# Altium footprint library footprintLIB.PcbLib: 52 footprints (part 3 of 4)
Each footprint in its own frame and in the unit in brackets; x right, y up, seen from the top. Pads: shape width x height; smd on the part's side, far side on the other; paste and mask are expansions set on the pad; w line width, h text height; cw(c..) or ccw(c..) is an arc to the next point about the centre after c.
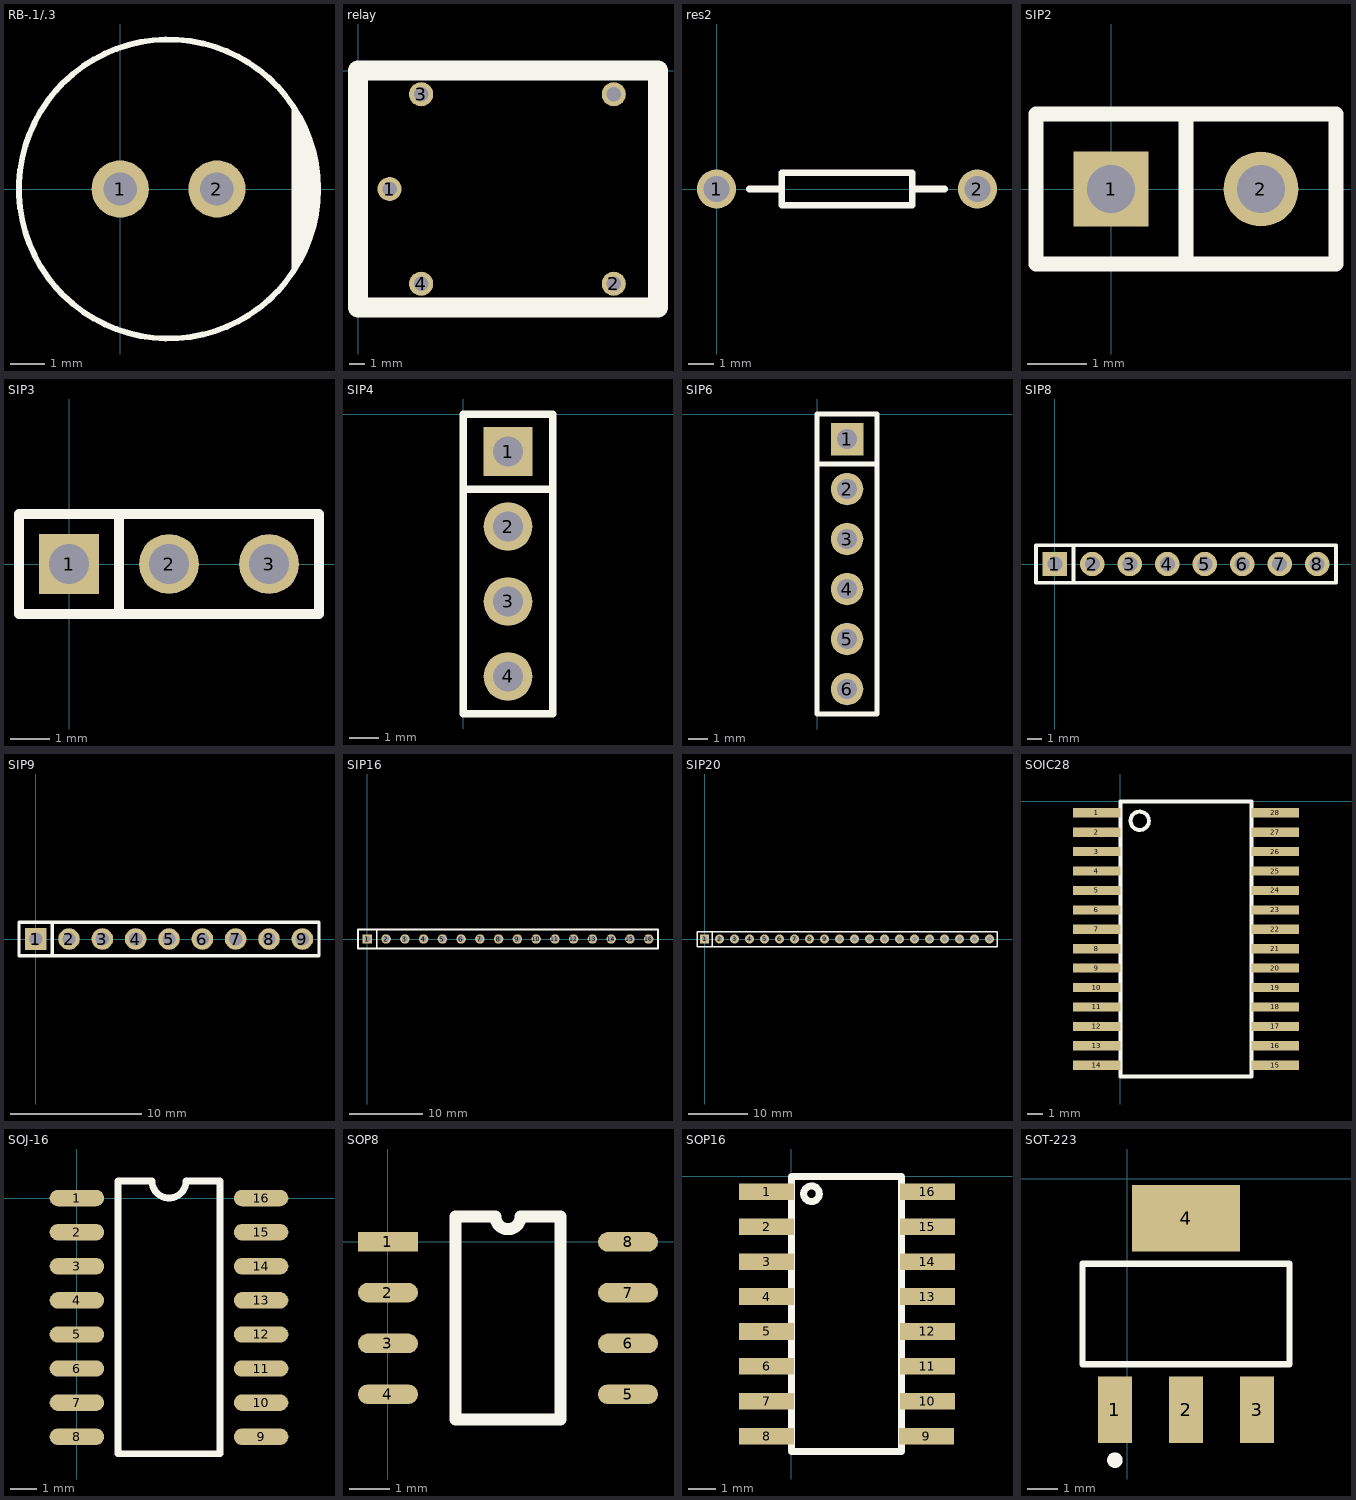
[diagram p2: the footprints below, top view; thin cyan lines are the x and y axes]

## RB-.1/.3 [mil] "47uF 100uF 220uF 470uF"
pads (2):
  round 65 hole 38: 1(0,0) 2(110,0)
Top Overlay:
  circle w6.69: c55,0 r170
  region: 195,97 195,-95 219,-47 226,13 215,58 195,97

## relay [mil]
pads (5):
  round 60 hole 36: 1(78.74,-295.28) 2(637.8,-531.5) 3(157.48,-59.06) 4(157.48,-531.5) ""(637.8,-59.06)
Top Overlay:
  lines w50: 0,-590.55 748.03,-590.55 748.03,0 0,0 0,-590.55

## res2 [mil]
pads (2):
  round 60 hole 40: 1(0,0) 2(400,0)
Top Overlay:
  lines w10: 50,0 100,0 ; 300,0 350,0 ; 100,0 100,25 300,25 300,-25 100,-25 100,0

## SIP2 [mil]
pads (2):
  rect 50x50 hole 32: 1(0,0)
  round 50 hole 32: 2(100,0)
Top Overlay:
  lines w10: 50,-50 50,50 ; -50,-50 150,-50 150,50 -50,50 -50,-50

## SIP3 [mil]
pads (3):
  rect 60x60 hole 40: 1(0,0)
  round 60 hole 40: 2(100,0) 3(200,0)
Top Overlay:
  lines w10: 50,-50 50,50 ; -50,-50 -50,50 250,50 250,-50 -50,-50

## SIP4 [mil]
pads (4):
  rect 65x65 hole 40: 1(60,-50)
  round 65 hole 40: 2(60,-150) 3(60,-250) 4(60,-350)
Top Overlay:
  lines w10: 0,-100 120,-100 ; 0,-400 120,-400 120,0 0,0 0,-400

## SIP6 [mil]
pads (6):
  rect 65x65 hole 40: 1(60,-50)
  round 65 hole 40: 2(60,-150) 3(60,-250) 4(60,-350) 5(60,-450) 6(60,-550)
Top Overlay:
  lines w10: 0,-100 120,-100 ; 0,-600 0,0 120,0 120,-600 0,-600

## SIP8 [mil]
pads (8):
  rect 65x65 hole 40: 1(0,0)
  round 65 hole 40: 2(100,0) 3(200,0) 4(300,0) 5(400,0) 6(500,0) 7(600,0) 8(700,0)
Top Overlay:
  lines w10: 50,-50 50,50 ; -50,-50 -50,50 750,50 750,-50 -50,-50

## SIP9 [mil]
pads (9):
  rect 65x65 hole 40: 1(0,0)
  round 65 hole 40: 2(100,0) 3(200,0) 4(300,0) 5(400,0) 6(500,0) 7(600,0) 8(700,0) 9(800,0)
Top Overlay:
  lines w10: 50,-50 50,50 ; -50,-50 850,-50 850,50 -50,50 -50,-50

## SIP16 [mil]
pads (16):
  rect 50x50 hole 32: 1(0,0)
  round 50 hole 32: 2(100,0) 3(200,0) 4(300,0) 5(400,0) 6(500,0) 7(600,0) 8(700,0) 9(800,0) 10(900,0) 11(1000,0) 12(1100,0) 13(1200,0) 14(1300,0) 15(1400,0) 16(1500,0)
Top Overlay:
  lines w10: 50,-50 50,50 ; -50,-50 -50,50 1550,50 1550,-50 -50,-50

## SIP20 [mm]
pads (20):
  rect 1.5x1.5 hole 0.813: 1(0,0)
  round 1.5 hole 0.813: 2(2.54,0) 3(5.08,0) 4(7.62,0) 5(10.16,0) 6(12.7,0) 7(15.24,0) 8(17.78,0) 9(20.32,0) 10(22.86,0) 11(25.4,0) 12(27.94,0) 13(30.48,0) 14(33.02,0) 15(35.56,0) 16(38.1,0) 17(40.64,0) 18(43.18,0) 19(45.72,0) 20(48.26,0)
Top Overlay:
  lines w0.254: 1.27,-1.27 1.27,1.27 ; -1.27,-1.27 49.53,-1.27 49.53,1.27 -1.27,1.27 -1.27,-1.27

## SOIC28 [mm]
pads (28):
  rect 3.11x0.6 smd: 1(-1.555,-0.745) 2(-1.555,-2.015) 3(-1.555,-3.285) 4(-1.555,-4.555) 5(-1.555,-5.825) 6(-1.555,-7.095) 7(-1.555,-8.365) 8(-1.555,-9.635) 9(-1.555,-10.905) 10(-1.555,-12.175) 11(-1.555,-13.445) 12(-1.555,-14.715) 13(-1.555,-15.985) 14(-1.555,-17.255) 15(10.145,-17.255) 16(10.145,-15.985) 17(10.145,-14.715) 18(10.145,-13.445) 19(10.145,-12.175) 20(10.145,-10.905) 21(10.145,-9.635) 22(10.145,-8.365) 23(10.145,-7.095) 24(10.145,-5.825) 25(10.145,-4.555) 26(10.145,-3.285) 27(10.145,-2.015) 28(10.145,-0.745)
Top Overlay:
  circle w0.254: c1.27,-1.27 r0.6
  lines w0.254: 0,-18 8.59,-18 8.59,0 0,0 0,-18

## SOJ-16 [mil]
pads (16):
  oval 80x24 smd: 1(0,0) 2(0,-50) 3(0,-100) 4(0,-150) 5(0,-200) 6(0,-250) 7(0,-300) 8(0,-350) 9(270,-350) 10(270,-300) 11(270,-250) 12(270,-200) 13(270,-150) 14(270,-100) 15(270,-50) 16(270,0)
Top Overlay:
  lines w10: 60,-375 60,25 110,25 ccw(c135,25) 160,25 210,25 210,-375 60,-375

## SOP8 [mm]
pads (8):
  rect 1.5x0.49 smd: 1(0,0)
  oval 1.5x0.49 smd: 2(0,-1.27) 3(0,-2.54) 4(0,-3.81) 5(6,-3.81) 6(6,-2.54) 7(6,-1.27) 8(6,0)
Top Overlay:
  lines w0.3: 1.685,-4.445 4.315,-4.445 4.315,0.635 3.317,0.635 cw(c3,0.635) 2.682,0.635 1.685,0.635 1.685,-4.445

## SOP16 [mm]
pads (16):
  rect 2x0.6 smd: 1(-0.9,-0.555) 2(-0.9,-1.825) 3(-0.9,-3.095) 4(-0.9,-4.365) 5(-0.9,-5.635) 6(-0.9,-6.905) 7(-0.9,-8.175) 8(-0.9,-9.445) 9(4.9,-9.445) 10(4.942,-8.175) 11(4.942,-6.905) 12(4.942,-5.635) 13(4.942,-4.365) 14(4.942,-3.095) 15(4.942,-1.825) 16(4.942,-0.555)
Top Overlay:
  circle w0.254: c0.732,-0.635 r0.284
  lines w0.254: 0,-10 0,0 4,0 4,-10 0,-10

## SOT-223 [mm]
pads (4):
  rect 1.1x2.15 smd: 1(-0.395,-7.47) 2(1.905,-7.47) 3(4.205,-7.47)
  rect 3.5x2.15 smd: 4(1.905,-1.27)
Top Overlay:
  circle w0.25: c-0.395,-9.095 r0.125
  lines w0.2: -1.445,-5.995 5.255,-5.995 5.255,-2.745 -1.445,-2.745 -1.445,-5.995